# EAGLE library part MAGJACK (library kmod-connectors)
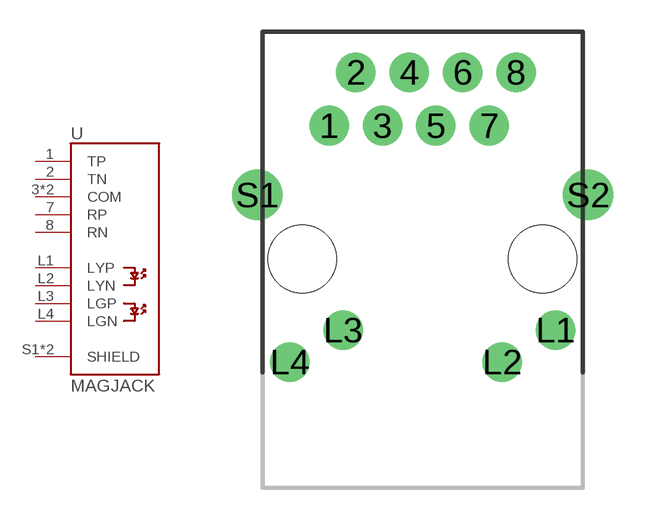
[diagram p9: symbol with the pads of MAGJACK; footprint MAGJACK]

Designator prefix -

## MAGJACK  [MAGJACK]
1  TP
2  TN
3  COM
6  COM
7  RP
8  RN
L1  LYP
L2  LYN
L3  LGP
L4  LGN
S1  SHIELD
S2  SHIELD

## Footprint MAGJACK (pad centres in mm)
RJ45 jack. Not sure if there are standardized footprints; this one was designed for http://media.digikey.com/pdf/Data%20Sheets/WIZnet%20PDFs/RB1-125BAG1A_ApprovalSheet.pdf
drill 1 pad 1.88: 1 -4.445,6.35; 2 -3.175,8.89; 3 -1.905,6.35; 4 -0.635,8.89; 5 0.635,6.35; 6 1.905,8.89; 7 3.175,6.35; 8 4.445,8.89
drill 0.89 pad 1.88: L1 6.325,-3.38; L2 3.785,-4.9; L3 -3.785,-3.38; L4 -6.325,-4.9
drill 1.6: S1 -7.875,3.05; S2 7.875,3.05
hole 3.25 at -5.715,0
hole 3.25 at 5.715,0